# EAGLE library part MEMS-S1630 (library Micromirror_Ampli_PCB)
4-Quadrant two-Axis actuators. Actuators rotate mirror in the positive & negative direction about the x-axis & in the positive & negative direction about the y-axis
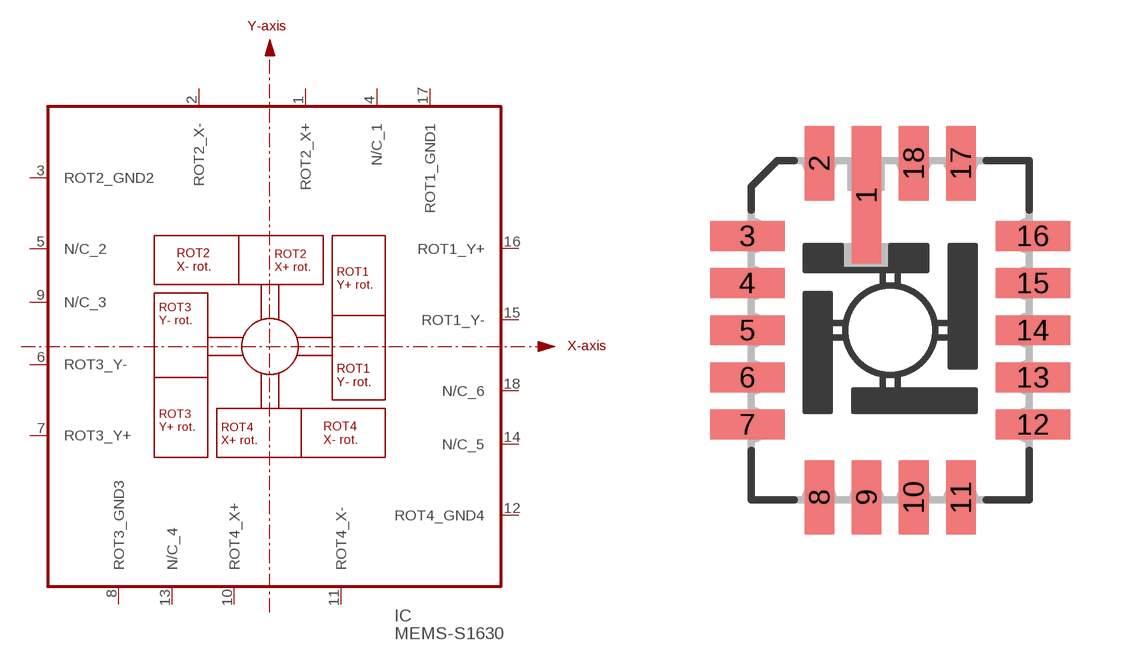
[diagram p1: symbol with the pads of LCC18; footprint LCC18]

Designator prefix IC

## MEMS-S1630 (CASE: LCC18; MANUFACTURER: mirrorcletech)  [LCC18]
1  ROT2_X+  in
2  ROT2_X-  in
3  ROT2_GND2  pas
4  N/C_1  nc
5  N/C_2  nc
6  ROT3_Y-  in
7  ROT3_Y+  in
8  ROT3_GND3  pas
9  N/C_3  nc
10  ROT4_X+  in
11  ROT4_X-  in
12  ROT4_GND4  pas
13  N/C_4  nc
14  N/C_5  nc
15  ROT1_Y-  in
16  ROT1_Y+  in
17  ROT1_GND1  pas
18  N/C_6  nc

## Footprint LCC18 (pad centres in mm)
Case Outline LCC-18
smd 0.8 x 3.7: 1 -0.635,3.65
smd 0.8 x 2: 2 -1.905,4.5; 8 -1.905,-4.5; 9 -0.635,-4.5; 10 0.635,-4.5; 11 1.905,-4.5; 17 1.905,4.5; 18 0.635,4.5
smd 2 x 0.8: 3 -3.845,2.54; 4 -3.845,1.27; 5 -3.845,0; 6 -3.845,-1.27; 7 -3.845,-2.54; 12 3.845,-2.54; 13 3.845,-1.27; 14 3.845,0; 15 3.845,1.27; 16 3.845,2.54